# EAGLE library part DRV8834 (library Steppers)
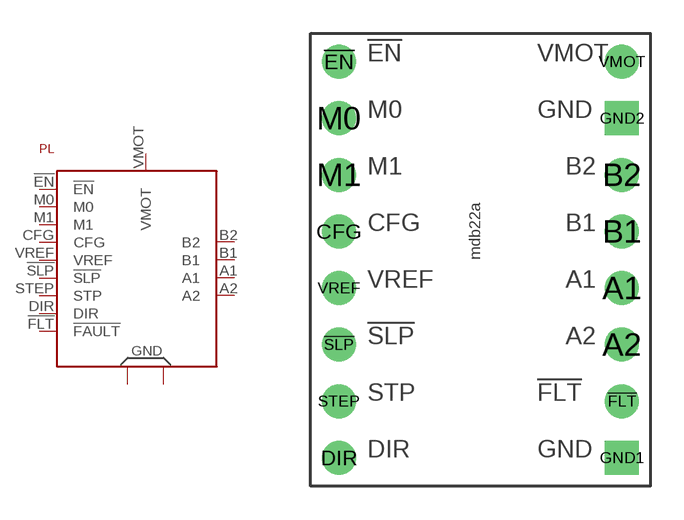
[diagram p4: symbol with the pads of MD22A; footprint MD22A]

Designator prefix PL

## DRV8834  [MD22A]
!EN  !EN
!FLT  !FAULT
!SLP  !SLP
A1  A1
A2  A2
B1  B1
B2  B2
CFG  CFG
DIR  DIR
GND1  GND1
GND2  GND2
M0  M0
M1  M1
STEP  STP
VMOT  VMOT
VREF  VREF

## Footprint MD22A (pad centres in mm)
drill 1.016: !EN -6.35,8.89; !FLT 6.35,-6.35; !SLP -6.35,-3.81; A1 6.35,-1.27; A2 6.35,-3.81; B1 6.35,1.27; B2 6.35,3.81; CFG -6.35,1.27; DIR -6.35,-8.89; M0 -6.35,6.35; M1 -6.35,3.81; STEP -6.35,-6.35; VMOT 6.35,8.89; VREF -6.35,-1.27
drill 1.016 square: GND1 6.35,-8.89; GND2 6.35,6.35